# EAGLE library part LM5146RGYR (library LM5146RGYR)
Buck Regulator Positive Output Step-Down DC-DC Controller IC 20-VQFN (3.5x4.5) Source: Datasheet <https://www.ti.com/lit/ds/symlink/lm5146.pdf?ts=1628013058760>
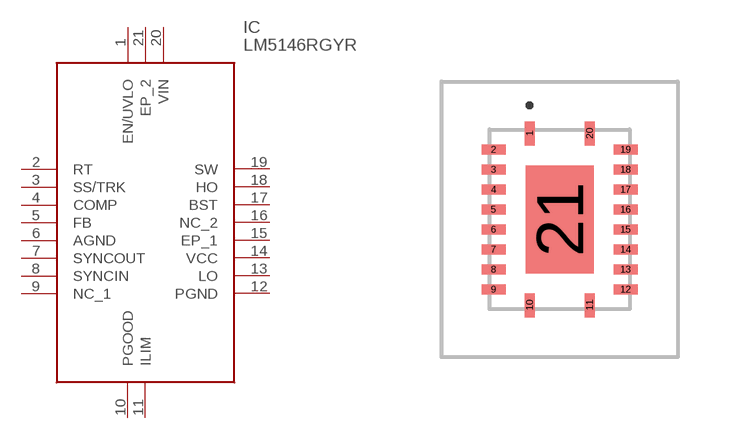
[diagram p0: symbol with the pads of LM5146RGYR; footprint LM5146RGYR]

Designator prefix IC

## LM5146RGYR (Arrow_Part_Number: LM5146RGYR; Arrow_Price-Stock: https://www.arrow.com/en/products/lm5146rgyr/texas-instruments?region=nac; Description: Buck Regulator Positive Output Step-Down DC-DC Controller IC 20-VQFN (3.5x4.5); Height: 1mm; Manufacturer_Name: Texas Instruments; Manufacturer_Part_Number: LM5146RGYR; Mouser_Part_Number: 595-LM5146RGYR; Mouser_Price-Stock: https://www.mouser.co.uk/ProductDetail/Texas-Instruments/LM5146RGYR?qs=QNEnbhJQKvb1sM4DnKk1TA%3D%3D)  [LM5146RGYR]
1  EN/UVLO
2  RT
3  SS/TRK
4  COMP
5  FB
6  AGND
7  SYNCOUT
8  SYNCIN
9  NC_1
10  PGOOD
11  ILIM
12  PGND
13  LO
14  VCC
15  EP_1
16  NC_2
17  BST
18  HO
19  SW
20  VIN
21  EP_2

## Footprint LM5146RGYR (pad centres in mm)
RGY0020B_2021
smd 0.25 x 0.6: 1 -0.75,2.15; 10 -0.75,-2.15; 11 0.75,-2.15; 20 0.75,2.15
smd 0.6 x 0.25: 2 -1.65,1.75; 3 -1.65,1.25; 4 -1.65,0.75; 5 -1.65,0.25; 6 -1.65,-0.25; 7 -1.65,-0.75; 8 -1.65,-1.25; 9 -1.65,-1.75; 12 1.65,-1.75; 13 1.65,-1.25; 14 1.65,-0.75; 15 1.65,-0.25; 16 1.65,0.25; 17 1.65,0.75; 18 1.65,1.25; 19 1.65,1.75
smd 1.7 x 2.7: 21 0,0